# Altium schematic symbol library 860020672011.SchLib: 1 symbol
Pins are listed as number, name and electrical type; pins without a type are passive.

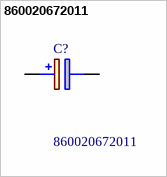
[diagram p0: symbol 860020672011]

## 860020672011
designator C?
Wurth Elektronik 22uF 50 V dc Aluminium Electrolytic Capacitor, WCAP-ATG5 Series 2000h 5 (Dia.) x 11mm; Geometry.Height: 12.5mm; Mouser Part Number: 710-860020672011; Mouser Price/Stock: https://www.mouser.co.uk/ProductDetail/Wurth-Elektronik/860020672011?qs=0KOYDY2FL2%2FKkbEhyek4UA%3D%3D; Manufacturer_Name: Wurth Elektronik; Manufacturer_Part_Number: 860020672011; Datasheet Link: https://katalog.we-online.de/pbs/datasheet/860020672011.pdf
footprint CAPPRD200W52D500H1250
pins: 1 +, 2 -